# Altium footprint library PLCC_Sq_127P_Ctr_M.PcbLib: 22 footprints (part 2 of 2)
Each footprint in its own frame and in the unit in brackets; x right, y up, seen from the top. Pads: shape width x height; smd on the part's side, far side on the other; paste and mask are expansions set on the pad; w line width, h text height; cw(c..) or ccw(c..) is an arc to the next point about the centre after c.
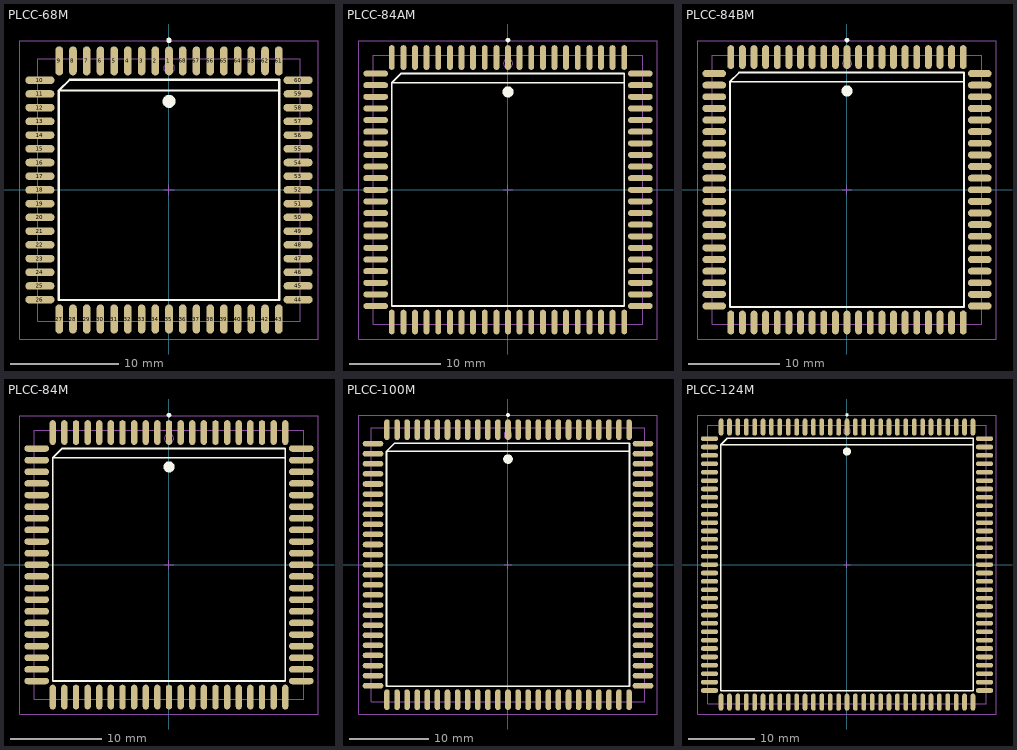
[diagram p1: the footprints below, top view; thin cyan lines are the x and y axes]

## PLCC-68M [mm] "Leaded Chip Carrier, 68-Leads, Body 24x24mm, Pitch 1.27mm, IPC Low Density"
height 4.58
pads (68):
  oval 0.7x2.7 smd: 1(0,11.95) 2(-1.27,11.95) 3(-2.54,11.95) 4(-3.81,11.95) 5(-5.08,11.95) 6(-6.35,11.95) 7(-7.62,11.95) 8(-8.89,11.95) 9(-10.16,11.95) 27(-10.16,-11.95) 28(-8.89,-11.95) 29(-7.62,-11.95) 30(-6.35,-11.95) 31(-5.08,-11.95) 32(-3.81,-11.95) 33(-2.54,-11.95) 34(-1.27,-11.95) 35(0,-11.95) 36(1.27,-11.95) 37(2.54,-11.95) 38(3.81,-11.95) 39(5.08,-11.95) 40(6.35,-11.95) 41(7.62,-11.95) 42(8.89,-11.95) 43(10.16,-11.95) 61(10.16,11.95) 62(8.89,11.95) 63(7.62,11.95) 64(6.35,11.95) 65(5.08,11.95) 66(3.81,11.95) 67(2.54,11.95) 68(1.27,11.95)
  oval 2.7x0.7 smd: 10(-11.95,10.16) 11(-11.95,8.89) 12(-11.95,7.62) 13(-11.95,6.35) 14(-11.95,5.08) 15(-11.95,3.81) 16(-11.95,2.54) 17(-11.95,1.27) 18(-11.95,0) 19(-11.95,-1.27) 20(-11.95,-2.54) 21(-11.95,-3.81) 22(-11.95,-5.08) 23(-11.95,-6.35) 24(-11.95,-7.62) 25(-11.95,-8.89) 26(-11.95,-10.16) 44(11.95,-10.16) 45(11.95,-8.89) 46(11.95,-7.62) 47(11.95,-6.35) 48(11.95,-5.08) 49(11.95,-3.81) 50(11.95,-2.54) 51(11.95,-1.27) 52(11.95,0) 53(11.95,1.27) 54(11.95,2.54) 55(11.95,3.81) 56(11.95,5.08) 57(11.95,6.35) 58(11.95,7.62) 59(11.95,8.89) 60(11.95,10.16)
Top Overlay:
  circle w0.25: c0,13.85 r0.125
  circle w0.6: c0,8.2 r0.3
  lines w0.2: 10.2,9.2 -10.2,9.2 ; -10.2,9.2 -9.2,10.2 10.2,10.2 10.2,-10.2 -10.2,-10.2 -10.2,9.2
Mechanical 13:
  circle w0.1: c0,11.265 r0.5
  lines w0.1: -12.165,-12.165 -12.165,12.165 12.165,12.165 12.165,-12.165 -12.165,-12.165
Mechanical 15:
  lines w0.1: -0.5,0 0.5,0 ; 0,-0.5 0,0.5 ; -13.8,-13.8 -13.8,13.8 13.8,13.8 13.8,-13.8 -13.8,-13.8
3D body: height 4.58, standoff 0, extent -12.165,-12.165 12.165,12.165

## PLCC-84AM [mm] "84-Pin Leaded Chip Carrier 1.27 mm Pitch"
height 5.08
pads (84):
  oval 0.65x2.7 smd: 1(0,14.45) 2(-1.27,14.45) 3(-2.54,14.45) 4(-3.81,14.45) 5(-5.08,14.45) 6(-6.35,14.45) 7(-7.62,14.45) 8(-8.89,14.45) 9(-10.16,14.45) 10(-11.43,14.45) 11(-12.7,14.45) 33(-12.7,-14.45) 34(-11.43,-14.45) 35(-10.16,-14.45) 36(-8.89,-14.45) 37(-7.62,-14.45) 38(-6.35,-14.45) 39(-5.08,-14.45) 40(-3.81,-14.45) 41(-2.54,-14.45) 42(-1.27,-14.45) 43(0,-14.45) 44(1.27,-14.45) 45(2.54,-14.45) 46(3.81,-14.45) 47(5.08,-14.45) 48(6.35,-14.45) 49(7.62,-14.45) 50(8.89,-14.45) 51(10.16,-14.45) 52(11.43,-14.45) 53(12.7,-14.45) 75(12.7,14.45) 76(11.43,14.45) 77(10.16,14.45) 78(8.89,14.45) 79(7.62,14.45) 80(6.35,14.45) 81(5.08,14.45) 82(3.81,14.45) 83(2.54,14.45) 84(1.27,14.45)
  oval 2.7x0.65 smd: 12(-14.45,12.7) 13(-14.45,11.43) 14(-14.45,10.16) 15(-14.45,8.89) 16(-14.45,7.62) 17(-14.45,6.35) 18(-14.45,5.08) 19(-14.45,3.81) 20(-14.45,2.54) 21(-14.45,1.27) 22(-14.45,0) 23(-14.45,-1.27) 24(-14.45,-2.54) 25(-14.45,-3.81) 26(-14.45,-5.08) 27(-14.45,-6.35) 28(-14.45,-7.62) 29(-14.45,-8.89) 30(-14.45,-10.16) 31(-14.45,-11.43) 32(-14.45,-12.7) 54(14.45,-12.7) 55(14.45,-11.43) 56(14.45,-10.16) 57(14.45,-8.89) 58(14.45,-7.62) 59(14.45,-6.35) 60(14.45,-5.08) 61(14.45,-3.81) 62(14.45,-2.54) 63(14.45,-1.27) 64(14.45,0) 65(14.45,1.27) 66(14.45,2.54) 67(14.45,3.81) 68(14.45,5.08) 69(14.45,6.35) 70(14.45,7.62) 71(14.45,8.89) 72(14.45,10.16) 73(14.45,11.43) 74(14.45,12.7)
Top Overlay:
  circle w0.25: c0,16.35 r0.125
  circle w0.6: c0,10.7 r0.3
  lines w0.2: 12.7,11.7 -12.7,11.7 ; -12.7,11.7 -11.7,12.7 12.7,12.7 12.7,-12.7 -12.7,-12.7 -12.7,11.7
Mechanical 13:
  circle w0.1: c0,13.805 r0.5
  lines w0.1: -14.705,-14.705 -14.705,14.705 14.705,14.705 14.705,-14.705 -14.705,-14.705
Mechanical 15:
  lines w0.1: -0.5,0 0.5,0 ; 0,-0.5 0,0.5 ; -16.3,-16.3 -16.3,16.3 16.3,16.3 16.3,-16.3 -16.3,-16.3
3D body: height 5.08, standoff 0, extent -14.705,-14.705 14.705,14.705

## PLCC-84BM [mm] "Leaded Chip Carrier, 84-Leads, Body 29.2x29.2mm, Pitch 1.27mm, IPC Low Density"
height 4.58
pads (84):
  oval 0.75x2.6 smd: 1(0,14.5) 2(-1.27,14.5) 3(-2.54,14.5) 4(-3.81,14.5) 5(-5.08,14.5) 6(-6.35,14.5) 7(-7.62,14.5) 8(-8.89,14.5) 9(-10.16,14.5) 10(-11.43,14.5) 11(-12.7,14.5) 33(-12.7,-14.5) 34(-11.43,-14.5) 35(-10.16,-14.5) 36(-8.89,-14.5) 37(-7.62,-14.5) 38(-6.35,-14.5) 39(-5.08,-14.5) 40(-3.81,-14.5) 41(-2.54,-14.5) 42(-1.27,-14.5) 43(0,-14.5) 44(1.27,-14.5) 45(2.54,-14.5) 46(3.81,-14.5) 47(5.08,-14.5) 48(6.35,-14.5) 49(7.62,-14.5) 50(8.89,-14.5) 51(10.16,-14.5) 52(11.43,-14.5) 53(12.7,-14.5) 75(12.7,14.5) 76(11.43,14.5) 77(10.16,14.5) 78(8.89,14.5) 79(7.62,14.5) 80(6.35,14.5) 81(5.08,14.5) 82(3.81,14.5) 83(2.54,14.5) 84(1.27,14.5)
  oval 2.6x0.75 smd: 12(-14.5,12.7) 13(-14.5,11.43) 14(-14.5,10.16) 15(-14.5,8.89) 16(-14.5,7.62) 17(-14.5,6.35) 18(-14.5,5.08) 19(-14.5,3.81) 20(-14.5,2.54) 21(-14.5,1.27) 22(-14.5,0) 23(-14.5,-1.27) 24(-14.5,-2.54) 25(-14.5,-3.81) 26(-14.5,-5.08) 27(-14.5,-6.35) 28(-14.5,-7.62) 29(-14.5,-8.89) 30(-14.5,-10.16) 31(-14.5,-11.43) 32(-14.5,-12.7) 54(14.5,-12.7) 55(14.5,-11.43) 56(14.5,-10.16) 57(14.5,-8.89) 58(14.5,-7.62) 59(14.5,-6.35) 60(14.5,-5.08) 61(14.5,-3.81) 62(14.5,-2.54) 63(14.5,-1.27) 64(14.5,0) 65(14.5,1.27) 66(14.5,2.54) 67(14.5,3.81) 68(14.5,5.08) 69(14.5,6.35) 70(14.5,7.62) 71(14.5,8.89) 72(14.5,10.16) 73(14.5,11.43) 74(14.5,12.7)
Top Overlay:
  circle w0.25: c0,16.35 r0.125
  circle w0.6: c0,10.8 r0.3
  lines w0.2: 12.8,11.8 -12.8,11.8 ; -12.8,11.8 -11.8,12.8 12.8,12.8 12.8,-12.8 -12.8,-12.8 -12.8,11.8
Mechanical 13:
  circle w0.1: c0,13.805 r0.5
  lines w0.1: -14.705,-14.705 -14.705,14.705 14.705,14.705 14.705,-14.705 -14.705,-14.705
Mechanical 15:
  lines w0.1: -0.5,0 0.5,0 ; 0,-0.5 0,0.5 ; -16.3,-16.3 -16.3,16.3 16.3,16.3 16.3,-16.3 -16.3,-16.3
3D body: height 4.58, standoff 0, extent -14.705,-14.705 14.705,14.705

## PLCC-84M [mm] "Leaded Chip Carrier, 84-Leads, Body 29.3x29.3mm, Pitch 1.27mm, IPC Low Density"
height 4.58
pads (84):
  oval 0.7x2.7 smd: 1(0,14.45) 2(-1.27,14.45) 3(-2.54,14.45) 4(-3.81,14.45) 5(-5.08,14.45) 6(-6.35,14.45) 7(-7.62,14.45) 8(-8.89,14.45) 9(-10.16,14.45) 10(-11.43,14.45) 11(-12.7,14.45) 33(-12.7,-14.45) 34(-11.43,-14.45) 35(-10.16,-14.45) 36(-8.89,-14.45) 37(-7.62,-14.45) 38(-6.35,-14.45) 39(-5.08,-14.45) 40(-3.81,-14.45) 41(-2.54,-14.45) 42(-1.27,-14.45) 43(0,-14.45) 44(1.27,-14.45) 45(2.54,-14.45) 46(3.81,-14.45) 47(5.08,-14.45) 48(6.35,-14.45) 49(7.62,-14.45) 50(8.89,-14.45) 51(10.16,-14.45) 52(11.43,-14.45) 53(12.7,-14.45) 75(12.7,14.45) 76(11.43,14.45) 77(10.16,14.45) 78(8.89,14.45) 79(7.62,14.45) 80(6.35,14.45) 81(5.08,14.45) 82(3.81,14.45) 83(2.54,14.45) 84(1.27,14.45)
  oval 2.7x0.7 smd: 12(-14.45,12.7) 13(-14.45,11.43) 14(-14.45,10.16) 15(-14.45,8.89) 16(-14.45,7.62) 17(-14.45,6.35) 18(-14.45,5.08) 19(-14.45,3.81) 20(-14.45,2.54) 21(-14.45,1.27) 22(-14.45,0) 23(-14.45,-1.27) 24(-14.45,-2.54) 25(-14.45,-3.81) 26(-14.45,-5.08) 27(-14.45,-6.35) 28(-14.45,-7.62) 29(-14.45,-8.89) 30(-14.45,-10.16) 31(-14.45,-11.43) 32(-14.45,-12.7) 54(14.45,-12.7) 55(14.45,-11.43) 56(14.45,-10.16) 57(14.45,-8.89) 58(14.45,-7.62) 59(14.45,-6.35) 60(14.45,-5.08) 61(14.45,-3.81) 62(14.45,-2.54) 63(14.45,-1.27) 64(14.45,0) 65(14.45,1.27) 66(14.45,2.54) 67(14.45,3.81) 68(14.45,5.08) 69(14.45,6.35) 70(14.45,7.62) 71(14.45,8.89) 72(14.45,10.16) 73(14.45,11.43) 74(14.45,12.7)
Top Overlay:
  circle w0.25: c0,16.35 r0.125
  circle w0.6: c0,10.7 r0.3
  lines w0.2: 12.7,11.7 -12.7,11.7 ; -12.7,11.7 -11.7,12.7 12.7,12.7 12.7,-12.7 -12.7,-12.7 -12.7,11.7
Mechanical 13:
  circle w0.1: c0,13.805 r0.5
  lines w0.1: -14.705,-14.705 -14.705,14.705 14.705,14.705 14.705,-14.705 -14.705,-14.705
Mechanical 15:
  lines w0.1: -0.5,0 0.5,0 ; 0,-0.5 0,0.5 ; -16.3,-16.3 -16.3,16.3 16.3,16.3 16.3,-16.3 -16.3,-16.3
3D body: height 4.58, standoff 0, extent -14.705,-14.705 14.705,14.705

## PLCC-100M [mm] "Leaded Chip Carrier, 100-Leads, Body 34.4x34.4mm, Pitch 1.27mm, IPC Low Density"
height 5.08
pads (100):
  oval 0.7x2.6 smd: 1(0,17) 2(-1.27,17) 3(-2.54,17) 4(-3.81,17) 5(-5.08,17) 6(-6.35,17) 7(-7.62,17) 8(-8.89,17) 9(-10.16,17) 10(-11.43,17) 11(-12.7,17) 12(-13.97,17) 13(-15.24,17) 39(-15.24,-17) 40(-13.97,-17) 41(-12.7,-17) 42(-11.43,-17) 43(-10.16,-17) 44(-8.89,-17) 45(-7.62,-17) 46(-6.35,-17) 47(-5.08,-17) 48(-3.81,-17) 49(-2.54,-17) 50(-1.27,-17) 51(0,-17) 52(1.27,-17) 53(2.54,-17) 54(3.81,-17) 55(5.08,-17) 56(6.35,-17) 57(7.62,-17) 58(8.89,-17) 59(10.16,-17) 60(11.43,-17) 61(12.7,-17) 62(13.97,-17) 63(15.24,-17) 89(15.24,17) 90(13.97,17) 91(12.7,17) 92(11.43,17) 93(10.16,17) 94(8.89,17) 95(7.62,17) 96(6.35,17) 97(5.08,17) 98(3.81,17) 99(2.54,17) 100(1.27,17)
  oval 2.6x0.7 smd: 14(-17,15.24) 15(-17,13.97) 16(-17,12.7) 17(-17,11.43) 18(-17,10.16) 19(-17,8.89) 20(-17,7.62) 21(-17,6.35) 22(-17,5.08) 23(-17,3.81) 24(-17,2.54) 25(-17,1.27) 26(-17,0) 27(-17,-1.27) 28(-17,-2.54) 29(-17,-3.81) 30(-17,-5.08) 31(-17,-6.35) 32(-17,-7.62) 33(-17,-8.89) 34(-17,-10.16) 35(-17,-11.43) 36(-17,-12.7) 37(-17,-13.97) 38(-17,-15.24) 64(17,-15.24) 65(17,-13.97) 66(17,-12.7) 67(17,-11.43) 68(17,-10.16) 69(17,-8.89) 70(17,-7.62) 71(17,-6.35) 72(17,-5.08) 73(17,-3.81) 74(17,-2.54) 75(17,-1.27) 76(17,0) 77(17,1.27) 78(17,2.54) 79(17,3.81) 80(17,5.08) 81(17,6.35) 82(17,7.62) 83(17,8.89) 84(17,10.16) 85(17,11.43) 86(17,12.7) 87(17,13.97) 88(17,15.24)
Top Overlay:
  circle w0.25: c0,18.85 r0.125
  circle w0.6: c0,13.3 r0.3
  lines w0.2: 15.3,14.3 -15.3,14.3 ; -15.3,14.3 -14.3,15.3 15.3,15.3 15.3,-15.3 -15.3,-15.3 -15.3,14.3
Mechanical 13:
  circle w0.1: c0,16.345 r0.5
  lines w0.1: -17.245,-17.245 -17.245,17.245 17.245,17.245 17.245,-17.245 -17.245,-17.245
Mechanical 15:
  lines w0.1: -0.5,0 0.5,0 ; 0,-0.5 0,0.5 ; -18.8,-18.8 -18.8,18.8 18.8,18.8 18.8,-18.8 -18.8,-18.8
3D body: height 5.08, standoff 0, extent -17.245,-17.245 17.245,17.245

## PLCC-124M [mm] "Leaded Chip Carrier, 124-Leads, Body 42x42mm, Pitch 1.27mm, IPC Low Density"
height 5.08
pads (124):
  oval 0.7x2.6 smd: 1(0,20.8) 2(-1.27,20.8) 3(-2.54,20.8) 4(-3.81,20.8) 5(-5.08,20.8) 6(-6.35,20.8) 7(-7.62,20.8) 8(-8.89,20.8) 9(-10.16,20.8) 10(-11.43,20.8) 11(-12.7,20.8) 12(-13.97,20.8) 13(-15.24,20.8) 14(-16.51,20.8) 15(-17.78,20.8) 16(-19.05,20.8) 48(-19.05,-20.8) 49(-17.78,-20.8) 50(-16.51,-20.8) 51(-15.24,-20.8) 52(-13.97,-20.8) 53(-12.7,-20.8) 54(-11.43,-20.8) 55(-10.16,-20.8) 56(-8.89,-20.8) 57(-7.62,-20.8) 58(-6.35,-20.8) 59(-5.08,-20.8) 60(-3.81,-20.8) 61(-2.54,-20.8) 62(-1.27,-20.8) 63(0,-20.8) 64(1.27,-20.8) 65(2.54,-20.8) 66(3.81,-20.8) 67(5.08,-20.8) 68(6.35,-20.8) 69(7.62,-20.8) 70(8.89,-20.8) 71(10.16,-20.8) 72(11.43,-20.8) 73(12.7,-20.8) 74(13.97,-20.8) 75(15.24,-20.8) 76(16.51,-20.8) 77(17.78,-20.8) 78(19.05,-20.8) 110(19.05,20.8) 111(17.78,20.8) 112(16.51,20.8) 113(15.24,20.8) 114(13.97,20.8) 115(12.7,20.8) 116(11.43,20.8) 117(10.16,20.8) 118(8.89,20.8) 119(7.62,20.8) 120(6.35,20.8) 121(5.08,20.8) 122(3.81,20.8) 123(2.54,20.8) 124(1.27,20.8)
  oval 2.6x0.7 smd: 17(-20.8,19.05) 18(-20.8,17.78) 19(-20.8,16.51) 20(-20.8,15.24) 21(-20.8,13.97) 22(-20.8,12.7) 23(-20.8,11.43) 24(-20.8,10.16) 25(-20.8,8.89) 26(-20.8,7.62) 27(-20.8,6.35) 28(-20.8,5.08) 29(-20.8,3.81) 30(-20.8,2.54) 31(-20.8,1.27) 32(-20.8,0) 33(-20.8,-1.27) 34(-20.8,-2.54) 35(-20.8,-3.81) 36(-20.8,-5.08) 37(-20.8,-6.35) 38(-20.8,-7.62) 39(-20.8,-8.89) 40(-20.8,-10.16) 41(-20.8,-11.43) 42(-20.8,-12.7) 43(-20.8,-13.97) 44(-20.8,-15.24) 45(-20.8,-16.51) 46(-20.8,-17.78) 47(-20.8,-19.05) 79(20.8,-19.05) 80(20.8,-17.78) 81(20.8,-16.51) 82(20.8,-15.24) 83(20.8,-13.97) 84(20.8,-12.7) 85(20.8,-11.43) 86(20.8,-10.16) 87(20.8,-8.89) 88(20.8,-7.62) 89(20.8,-6.35) 90(20.8,-5.08) 91(20.8,-3.81) 92(20.8,-2.54) 93(20.8,-1.27) 94(20.8,0) 95(20.8,1.27) 96(20.8,2.54) 97(20.8,3.81) 98(20.8,5.08) 99(20.8,6.35) 100(20.8,7.62) 101(20.8,8.89) 102(20.8,10.16) 103(20.8,11.43) 104(20.8,12.7) 105(20.8,13.97) 106(20.8,15.24) 107(20.8,16.51) 108(20.8,17.78) 109(20.8,19.05)
Top Overlay:
  circle w0.25: c0,22.65 r0.125
  circle w0.6: c0,17.1 r0.3
  lines w0.2: 19.1,18.1 -19.1,18.1 ; -19.1,18.1 -18.1,19.1 19.1,19.1 19.1,-19.1 -19.1,-19.1 -19.1,18.1
Mechanical 13:
  circle w0.1: c0,20.155 r0.5
  lines w0.1: -21.055,-21.055 -21.055,21.055 21.055,21.055 21.055,-21.055 -21.055,-21.055
Mechanical 15:
  lines w0.1: -0.5,0 0.5,0 ; 0,-0.5 0,0.5 ; -22.6,-22.6 -22.6,22.6 22.6,22.6 22.6,-22.6 -22.6,-22.6
3D body: height 5.08, standoff 0, extent -21.055,-21.055 21.055,21.055